# EAGLE library part STANDARDCONNECTOR (library microbuilder)
Standard 20-Pin MCU Connector
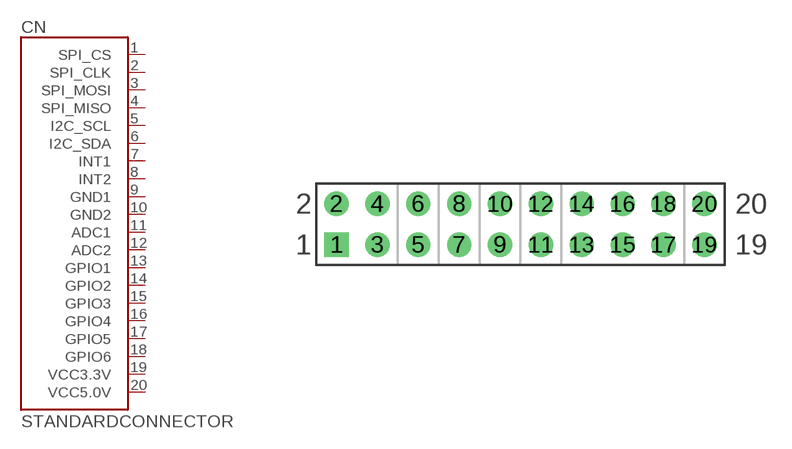
[diagram p24: symbol with the pads of STANDARDCONNECTOR; footprint STANDARDCONNECTOR]

Designator prefix CN

## STANDARDCONNECTOR  [STANDARDCONNECTOR]
1  SPI_CS
2  SPI_CLK
3  SPI_MOSI
4  SPI_MISO
5  I2C_SCL
6  I2C_SDA
7  INT1
8  INT2
9  GND1
10  GND2
11  ADC1
12  ADC2
13  GPIO1
14  GPIO2
15  GPIO3
16  GPIO4
17  GPIO5
18  GPIO6
19  VCC3.3V
20  VCC5.0V

## Footprint STANDARDCONNECTOR (pad centres in mm)
drill 1 square: 1 -11.43,-1.27
drill 1 round: 2 -11.43,1.27; 3 -8.89,-1.27; 4 -8.89,1.27; 5 -6.35,-1.27; 6 -6.35,1.27; 7 -3.81,-1.27; 8 -3.81,1.27; 9 -1.27,-1.27; 10 -1.27,1.27; 11 1.27,-1.27; 12 1.27,1.27; 13 3.81,-1.27; 14 3.81,1.27; 15 6.35,-1.27; 16 6.35,1.27; 17 8.89,-1.27; 18 8.89,1.27; 19 11.43,-1.27; 20 11.43,1.27